# Altium integrated library Mataric.IntLib: 23 symbols
Pins are listed as number, name and electrical type; pins without a type are passive.

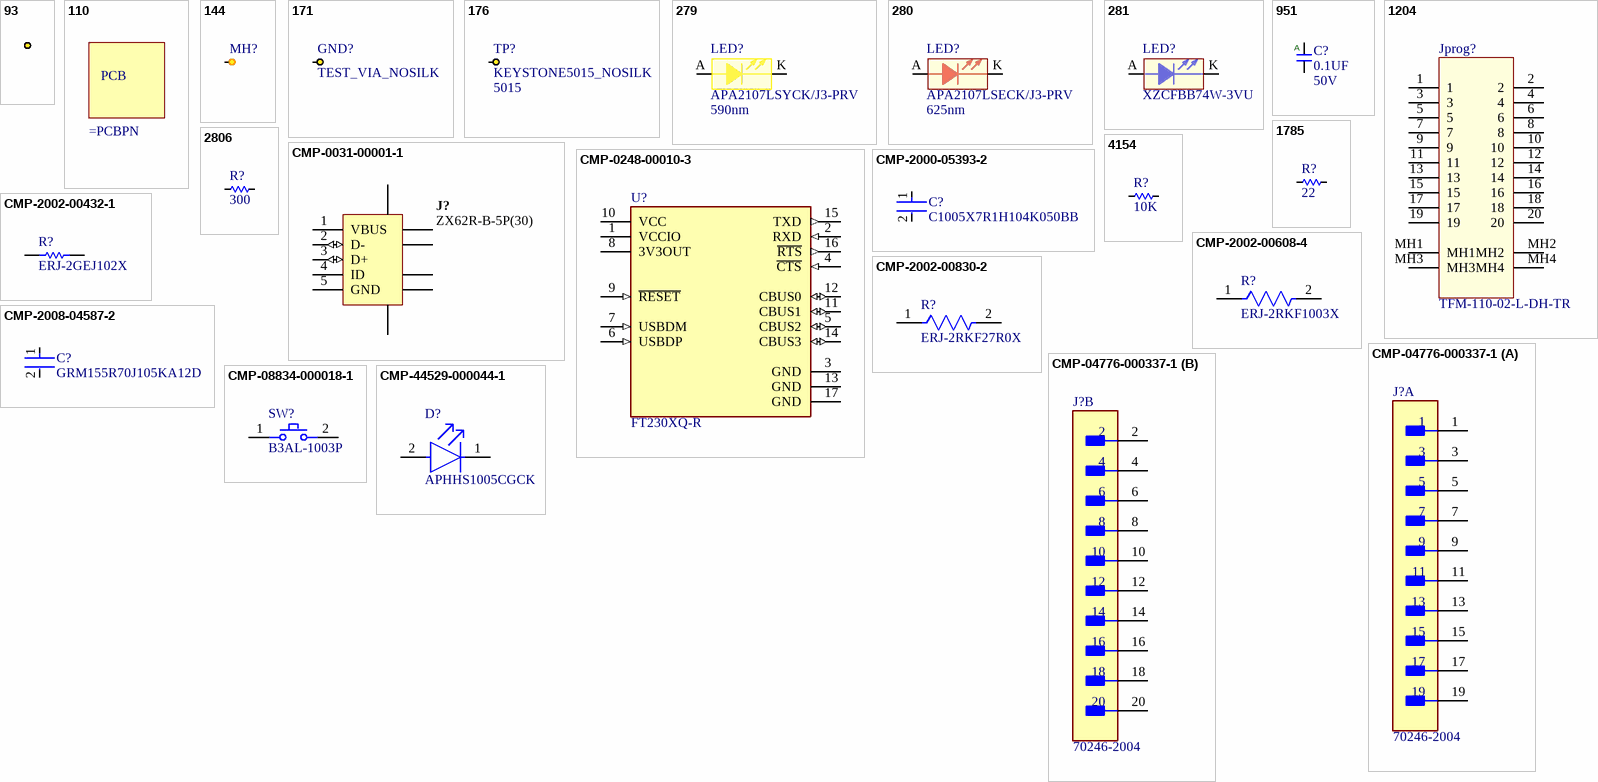
[diagram p0: symbols 93 to CMP-44529-000044-1]

## 93
designator ?, comment FIDUCIAL  (value not drawn)  (no BOM)
FIDUCIAL 1MM COPPER CIRCLE 3MM MASK PULLBACK; ID: 93; MFG: _PCB Feature; Status: In Development
footprint FIDUCIAL_1MM

## 110
designator ?, comment PCB  (value not drawn)  (mechanical)
ID: 110; Level: 1; FindNumber: 010; Org: ORG - REP; Type: PCB; GPN: =PCBPN; Status: In Development; MFG P/N: =PCBPN; PROXY: =PCBPN; Type: 651-PCB; ProductLine: Proxy; ItemNumber: =PCBPN

## 144
designator MH?, comment MH  (value not drawn)  (no BOM)
MOUNTING HOLE, M1.6, 4.0mm PAD; ID: 144; Status: Released
footprint MH_2.1MM
footprint MH_2.2MM
footprint MH_2.4MM
footprint MH_3.2MM
footprint MH_2.2MM_2
footprint MH_3.2MM_2
footprint MH_6.5MM
footprint MH_81MM
footprint MH_0.75MM
footprint MH_3.0MM
footprint MH_3.3MM_SLIDE
footprint MH_4.5MM
footprint MH_2.6MM
footprint MH_2.6MM_2.5MM_HOLE
footprint MH_1.6MM
pins: 1

## 171
designator GND?, comment TEST_VIA_NOSILK  (no BOM)
TEST VIA, NO SILKSCREEN, 15 MIL DRILL, 31 MIL PAD; ID: 171; MFG: _PCB Feature; Status: Released; Category: Testpoint vias
footprint TP_VIA_31pad_15drill_NS
pins: 1

## 176
designator TP?, comment KEYSTONE5015_NOSILK  MFG P/N: 5015
HW, TEST POINT, NO SILKSCREEN, PC MINIATURE, 0.25mm T, 1.52mm HEIGHT, SILVER PLATING, SMT; ID: 176; MFG: Keystone Electronics Corp.; COMMON: 250-00207-00; PROXY: 250-04113-00; KOI: 250-07313-00; XPN: XS-10008125; EES: 250-08552-00; EPIC: 250-08204-00; Status: In Development; Category: Test and Measurement; Supplier 1: Digi-Key; Height: 1.65mm; Mounting Type: SMD; HelpURL: https://www.digikey.com/product-detail/en/keystone-electronics/5015/36-5015CT-ND/278886; ComponentLink1Description: Datasheet; ComponentLink1URL: http://keyelco.com/userAssets/file/M65p55.pdf; LOON: 250-00207-00; Gecko: 250-00207-00; Supplier Part Number 1: 36-5015CT-ND
footprint KEYSTONE_5015_NS
pins: 1

## 279
designator LED?, comment value APA2107LSYCK/J3-PRV  Color / Wavelength: 590nm  (hidden comment: __Template_LED_YELLOW_AK)
LED, YELLOW, 590NM, CLEAR, RA, SMD-2; ID: 279; MFG: Kingbright; Voltage – Forward (VF) (MAX) @ IF: 1.85V; EES: 370-00592-00; Status: Released; MFG P/N: APA2107LSYCK/J3-PRV; Package: 2-SMD, No Lead; Category: Diode; RoHS Compliant: Yes; Diode Type: LED; Mounting Type: SMD; Supplier 1: Digi-Key; HelpURL: https://www.digikey.com/product-detail/en/kingbright/APA2107LSYCK-J3-PRV/754-1922-1-ND/5177452; ComponentLink1Description: Datasheet; ComponentLink1URL: http://www.kingbrightusa.com/images/catalog/SPEC/APA2107LSYCK-J3-PRV.pdf; Height: 0.7mm; Supplier Part Number 1: 754-1922-1-ND
footprint LED_APA2106CGCK
pins: A, K

## 280
designator LED?, comment value APA2107LSECK/J3-PRV  Color / Wavelength: 625nm  (hidden comment: __Template_LED_RED_AK)
LED, RED, 640NM, INDEPENDENT, CLEAR, RA, SMD-2; ID: 280; MFG: Kingbright; EES: 370-00593-00; Status: Released; MFG P/N: APA2107LSECK/J3-PRV; Package: 2-SMD, No Lead; Category: Diode; RoHS Compliant: Yes; Diode Type: LED; Mounting Type: SMD; Supplier 1: Digi-Key; HelpURL: https://www.digikey.com/product-detail/en/kingbright/APA2107LSECK-J3-PRV/754-2094-1-ND/7319022; ComponentLink1Description: Datasheet; ComponentLink1URL: http://www.kingbrightusa.com/images/catalog/SPEC/APA2107LSECK-J3-PRV.pdf; Height: 0.7mm; Supplier Part Number 1: 754-2094-1-ND
footprint LED_APA2106CGCK
pins: A, K

## 281
designator LED?, comment value XZCFBB74W-3VU  (hidden comment: __Template_LED_BLUE_AK)
LED, BLUE, 465NM, INDEPENDENT, CLEAR, RA, SMD-2; ID: 281; MFG: SunLED; Color / Wavelength: 470nm; EES: 370-00594-00; Status: Released; MFG P/N: XZCFBB74W-3VU; Package: 2-SMD, No Lead; Category: Diode; RoHS Compliant: Yes; Diode Type: LED; Mounting Type: SMD; Supplier 1: Digi-Key; HelpURL: https://www.digikey.com/product-detail/en/sunled/XZCFBB74W-3VU/1497-XZCFBB74W-3VUCT-ND/10449786; ComponentLink1Description: Datasheet; ComponentLink1URL: https://www.sunledusa.com/products/spec/XZCFBB74W-3VU.pdf; Height: 0.7mm; Supplier Part Number 1: 1497-XZCFBB74W-3VUCT-ND
footprint LED_APA2106CGCK
pins: A, K

## 951
designator C?, comment value 0.1UF  Voltage: 50V  (hidden comment: __Template_Cap_Auto)
CAP, CER, X7R, 0.1uF, 50V, 10%, 0402, AUTO GRADE; ID: 951; MFG: TDK; MFG P/N: CGA2B3X7R1H104K050BB; XPN: 150-00281-00; PROXY: Use ID #1723; EES: 150-04463-00; Status: Released; Package: 0402; Dielectric: X7R; Tolerance: 10%; Height: 0.56mm T; ComponentLink1Description: Datasheet; COMMON: 150-00281-00; LOON: 150-00281-00; Gecko: 150-00281-00
footprint C0402
pins: 1, 2
text: A

## 1204
designator Jprog?  MFG P/N: TFM-110-02-L-DH-TR
CONN, HDR, SHRD, RA, 2x10, 1.27MM P, 6.02MM h, GOLD, TH; ID: 1204; MFG: Samtec Inc; Connector Type: Header; Number of Positions: 20; Current Rating: 2.9A; Voltage, Rated: 275VAC; Sub Assy Qty 2: 0; EES: 210-04980-00; Status: Released; RoHS Compliant: Yes; Mounting Type: Surface Mount; Orientation: Right Angle; Pitch: 1.27mm; Number of Rows: 2; Row Spacing: 1.27mm; Gender: Header; Operating Temperature: -55°C ~ 125°C; Supplier 1: Digi-Key; HelpURL: https://www.digikey.com/en/products/detail/samtec-inc/TFM-110-02-L-DH-TR/6694026; ComponentLink1Description: Datasheet; ComponentLink1URL: http://suddendocs.samtec.com/prints/tfm-1xx-xx-x-dh-xx-mkt.pdf; Height: 6.02mm; Supplier Part Number 1: SAM14687TR-ND; Sub Assy Qty 3: 0; Sub Assy Qty 4: 0
footprint SAMTEC_TFM-110-02-L-DH
pins: 1, 2, 3, 4, 5, 6, 7, 8, 9, 10, 11, 12, 13, 14, 15, 16, 17, 18, 19, 20, MH1, MH2, MH3, MH4

## 1785
designator R?  value 22
Resistor, 22.0 Ohms, 0805, 0.125W, ±1%; ID: 1785; MFG: YAGEO; MFG P/N: RC0805FR-0722RL; Power: 1/8W; COMMON: 470-05283-00; XPN: XS-10016192; EES: 470-17982-00; Status: Released; Package: 0805; Tolerance: 1%; Height: 0.60mm; Supplier 1: Digi-Key; LOON: 470-05283-00; Gecko: 470-05283-00; Supplier Part Number 1: 311-22.0CRCT-ND
footprint R0805
pins: 1, 2

## 2806
designator R?  value 300
Resistor, 300 Ohms, 0603, 0.1W, ±1%; ID: 2806; MFG: YAGEO; MFG P/N: RC0603FR-07300RL; Power: 1/10W; COMMON: 470-06251-00; XPN: XS-10017062; EES: 470-17796-00; Status: Released; Package: 0603; Tolerance: 1%; Height: 0.55mm; Supplier 1: Digi-Key; LOON: 470-06251-00; Gecko: 470-06251-00; Supplier Part Number 1: 311-300HRCT-ND
footprint R0603
pins: 1, 2

## 4154
designator R?  value 10K
RES, 10K, 1%, 1/8W, 0805; ID: 4154; MFG: YAGEO; MFG P/N: RC0805FR-0710KL; COMMON: 470-07506-00; PROXY: 470-16861-00; Gecko: 470-17702-00; XPN: XS-10018162; EES: 470-17984-00; Status: Released; Package: 0805; Power: 1/8W; Tolerance: 1%; Height: 0.60mm; Supplier 1: Digi-Key; LOON: 470-07506-00; Supplier Part Number 1: 311-10.0KCRCT-ND
footprint R0805
pins: 1, 2

## CMP-0031-00001-1
designator J?, comment ZX62R-B-5P(30)
Connector; USBMicro-B,Reverse type, SMT; 5 Position; Right Angle; Manufacturer: Hirose; DatasheetVersion: 08/2010; Operating Temperature: -30 to 85 degC; Mounting Technology: Surface Mount; PartNumber: ZX62R-B-5P(30); PackageReference: ZX62R-B-5P; ComponentLink2URL: http://www.hirose.co.jp/cataloge_hp/e24200011.pdf; ComponentLink1URL: http://www.hirose.com/â€Ž; ComponentLink2Description: Datasheet; PackageDescription: 5-Pin USB Micro-B R/A Connector; ComponentLink1Description: Manufacturer URL; Manufacturer Part Number: ZX62R-B-5P
footprint HIRO-ZX62R-B-5P_V (USB Micro-B R/A Connector)
pins: 1 VBUS (power), 2 D- (io), 3 D+ (io), 4 ID, 5 GND (power), 6 SHLD, 7 SHLD, 8 SHLD, 9 SHLD, 10 SHLD, 11 SHLD

## CMP-0248-00010-3
designator U?, comment FT230XQ-R
IC USB SERIAL BASIC UART 16QFN; Manufacturer: FTDI; Number of Channels: 1; Data Rate: 12Mbps; Operating Supply Current: 8mA; Max Supply Voltage: 5.5V; Operating Supply Voltage: 5V; Min Supply Voltage: 2.97V; Width: 4mm; Length: 4mm; Height: 0.75mm; Max Operating Temperature: 85°C; Interface: USB; Min Operating Temperature: -40°C; Package Quantity: 5000; Lead Free: Lead Free; Number of Pins: 16; Case/Package: QFN; Weight: 0.002014oz; Packaging: Tape and Reel; Mount: Surface Mount; Manufacturer Part Number: FT230XQ-R
footprint FP-QFN-16-MFG
footprint FP-QFN-16-IPC_C
footprint FP-QFN-16-IPC_B
footprint FP-QFN-16-IPC_A
pins: 1 VCCIO (power), 2 RXD (in), 3 GND (power), 4 ~{CTS} (in), 5 CBUS2 (io), 6 USBDP (in), 7 USBDM (in), 8 3V3OUT (power), 9 ~{RESET} (in), 10 VCC (power), 11 CBUS1 (io), 12 CBUS0 (io), 13 GND (power), 14 CBUS3 (io), 15 TXD (out), 16 ~{RTS} (out), 17 GND (power)

## CMP-2000-05393-2
designator C?, comment C1005X7R1H104K050BB
Multilayer Ceramic Capacitors 100nF ±10% 50V X7R SMD 0402; Manufacturer: TDK; Voltage: 50V; Dielectric Material: Ceramic; Min Operating Temperature: -55°C; Depth: 0.5mm; Radiation Hardening: No; RoHS Compliant: Yes; Voltage Rating (DC): 50V; Lead Free: Lead Free; Resistor Type: Ceramic; Height: 0.5mm; Dielectric: X7R; Thickness: 0.022inch; Case/Package: 0402; Case Code (Metric): 1005; Termination: SMD/SMT; Capacitance: 100nF; Packaging: Tape and Reel; Max Operating Temperature: 125°C; Mount: Surface Mount; Package Quantity: 1; Width: 0.02inch; Weight: 2.3E-05oz; Voltage Rating: 50V; Tolerance: 10%; Construction: Flat; Case Code (Imperial): 0402; Length: 1mm; REACH SVHC: No SVHC; Series: C; Manufacturer Part Number: C1005X7R1H104K050BB
footprint FP-C1005-050-0_05-IPC_C
footprint FP-C1005-050-0_05-IPC_A
footprint FP-C1005-050-0_05-IPC_B
footprint FP-C1005-050-0_05-MFG
pins: 1, 2

## CMP-2002-00432-1
designator R?, comment ERJ-2GEJ102X
Manufacturer: Panasonic; Part Number: ERJ-2GEJ102X; Manufacturer Part Number: ERJ-2GEJ102X
footprint RESC1005X40X25NL05T05 (Chip Resistor, 2-Leads, Body 1.00x0.50mm, IPC Medium Density)
footprint RESC1005X40X25ML05T05 (Chip Resistor, 2-Leads, Body 1.00x0.50mm, IPC Low Density)
footprint RESC1005X40X25LL05T05 (Chip Resistor, 2-Leads, Body 1.00x0.50mm, IPC High Density)
pins: 1, 2
1 alternate drawing of the same symbol

## CMP-2002-00608-4
designator R?, comment ERJ-2RKF1003X
RES SMD 100K OHM 1% 1/10W 0402; Manufacturer: Panasonic; Resistance: 100kR; Voltage Rating (DC): 50V; Power Rating: 100mW; Temperature Coefficient: 100ppm/°C; Case/Package: 0402; Length: 1mm; Package Quantity: 1; Radiation Hardening: No; Case Code (Metric): 1005; Contact Plating: Tin; Mount: Surface Mount; Depth: 0.5mm; Max Operating Temperature: 155°C; Lead Free: Lead Free; Width: 0.5mm; Composition: Thick Film; Case Code (Imperial): 0402; Tolerance: 1%; Termination: SMD/SMT; Number of Pins: 2; Height: 0.35mm; Voltage Rating: 50V; Military Standard: Not; REACH SVHC: No SVHC; Packaging: Tape and Reel; Min Operating Temperature: -55°C; Max Power Dissipation: 100mW; Features: Automotive AEC-Q200; Number of Terminations: 2; Manufacturer Part Number: ERJ-2RKF1003X
footprint FP-ERJ2RK-IPC_C
footprint FP-ERJ2RK-IPC_A
footprint FP-ERJ2RK-IPC_B
footprint FP-ERJ2RK-MFG
pins: 1, 2

## CMP-2002-00830-2
designator R?, comment ERJ-2RKF27R0X
RES SMD 27 OHM 1% 1/10W 0402; Manufacturer: Panasonic; Voltage Rating: 50V; Temperature Coefficient: 100ppm/°C; Resistance: 27R; Power Rating: 100mW; Military Standard: Not; Construction: Rectangular; Tolerance: 1%; Features: Automotive AEC-Q200; Length: 1mm; Lead Free: Lead Free; Mount: Surface Mount; Number of Terminations: 2; Radiation Hardening: No; Number of Pins: 2; Width: 0.5mm; Contact Plating: Tin; Voltage Rating (DC): 50V; Resistance Tolerance: 1%; Series: ERJ; Packaging: Tape and Reel; Case/Package: 0402; Technology: THICK FILM; REACH SVHC: No SVHC; Depth: 0.5mm; Resistor Type: Thick Film; Package Quantity: 1; Termination: SMD/SMT; Case Code (Imperial): 0402; Height: 0.35mm; Weight: 2.8E-05oz; Max Operating Temperature: 155°C; Case Code (Metric): 1005; Min Operating Temperature: -55°C; RoHS Compliant: Yes; Max Power Dissipation: 100mW; Manufacturer Part Number: ERJ-2RKF27R0X
footprint FP-ERJ2R-IPC_B
footprint FP-ERJ2R-IPC_A
footprint FP-ERJ2R-MFG
footprint FP-ERJ2R-IPC_C
pins: 1, 2

## CMP-2008-04587-2
designator C?, comment GRM155R70J105KA12D
Chip Multilayer Ceramic Capacitors for General Purpose, 0402, 1.0uF, X7R, 15%, 10%, 6.3V; Manufacturer: Murata; Capacitance: 1uF; Case Code (Metric): 1005; Min Operating Temperature: -55°C; Tolerance: 10%; Depth: 0.5mm; Max Operating Temperature: 125°C; Width: 0.5mm; Case Code (Imperial): 0402; Termination: SMD/SMT; Weight: 0.000212oz; Thickness: 0.022inch; Package Quantity: 10000; Packaging: Tape and Reel; Voltage Rating: 6.3V; Lead Free: Lead Free; Height: 0.5mm; Length: 1mm; Dielectric: X7R; Case/Package: 0402; Voltage Rating (DC): 6.3V; Material: Ceramic; Mount: Surface Mount; Manufacturer Part Number: GRM155R70J105KA12D
footprint FP-GRM155-0_05-MFG
footprint FP-GRM155-0_05-IPC_A
footprint FP-GRM155-0_05-IPC_B
footprint FP-GRM155-0_05-IPC_C
pins: 1, 2

## CMP-04776-000337-1
designator J?, comment 70246-2004
CONN HEADER VERT 20POS 2.54MM; Manufacturer: Molex; Voltage Rating (DC): 250V; Number of Contacts: 20; Current Rating: 2.5A; Glow Wire Compliant: Non-compliant; Gender: Male; Termination: Solder; Min Operating Temperature: -55°C; Voltage Rating: 250V; Series: 70246; Orientation: Vertical; Radiation Hardening: No; Contact Material: Gold; Number of Circuits: 20; Packaging: Tray; Flammability Rating: UL94 V-0; Contact Plating: Gold; Max Voltage Rating (DC): 250V; Package Quantity: 720; ELV: Compliant; Max Operating Temperature: 120°C; Number of Positions: 20; Number of Rows: 2; Pitch: 2.54mm; Mount: Through Hole; Manufacturer Part Number: 70246-2004
footprint FP-70246-2004-MFG
part A pins: 1, 3, 5, 7, 9, 11, 13, 15, 17, 19
part B pins: 2, 4, 6, 8, 10, 12, 14, 16, 18, 20

## CMP-08834-000018-1
designator SW?, comment B3AL-1003P
SWITCH TACTILE SPST-NO 0.05A 16V; Manufacturer: Omron; Contact Resistance: 100mR; Illumination Type: Non-Illuminated; Electrical Life: 1000000Cycles; Switch Function: Off-Mom; Switch Travel: 1.3mm; Contact Current Rating: 50mA; Actuator Color: White; Operating Force: 3.5N; Throw Configuration: SPST; Package Quantity: 1; Orientation: Straight; Radiation Hardening: No; Packaging: Tape and Reel; Max Voltage Rating (DC): 16V; Mechanical Life: 1000000Cycles; Min Operating Temperature: -40°C; Depth: 6.6mm; Voltage Rating (DC): 16V; Contact Plating: Silver; Mount: Surface Mount; Series: B3AL; Termination: SMD/SMT; Max Current Rating: 50mA; RoHS Compliant: Yes; Max Operating Temperature: 90°C; Current Rating: 50mA; Length: 6.9mm; Weight: 0.18g; Manufacturer Part Number: B3AL-1003P
footprint FP-B3AL-1003P-MFG
pins: 1, 2

## CMP-44529-000044-1
designator D?, comment APHHS1005CGCK
LED GREEN CLEAR CHIP SMD; Manufacturer: Kingbright; Viewing Angle: 120°; Dominant Wavelength: 570nm; Test Current: 20mA; Luminous Intensity: 50mcd; Forward Voltage: 2.1V; Number of LEDs: 1; Lens Color: Clear; Packaging: Tape and Reel; Max Operating Temperature: 85°C; Illumination Color: Green; Length: 1mm; Mount: Surface Mount; Lens Style: Clear; Color: Green; Number of Pins: 2; Wavelength: 570nm; Case/Package: 0402; Width: 0.5mm; Package Quantity: 2000; Case Code (Metric): 1005; Height: 0.6mm; Lead Free: Lead Free; Case Code (Imperial): 0402; Forward Current: 20mA; Min Operating Temperature: -40°C; Manufacturer Part Number: APHHS1005CGCK
footprint FP-APHHS1005CGCK-MFG
pins: 1 C, 2 A